# Altium footprint library PCB_Footprint.PcbLib: 124 footprints (part 2 of 8)
Each footprint in its own frame and in the unit in brackets; x right, y up, seen from the top. Pads: shape width x height; smd on the part's side, far side on the other; paste and mask are expansions set on the pad; w line width, h text height; cw(c..) or ccw(c..) is an arc to the next point about the centre after c.
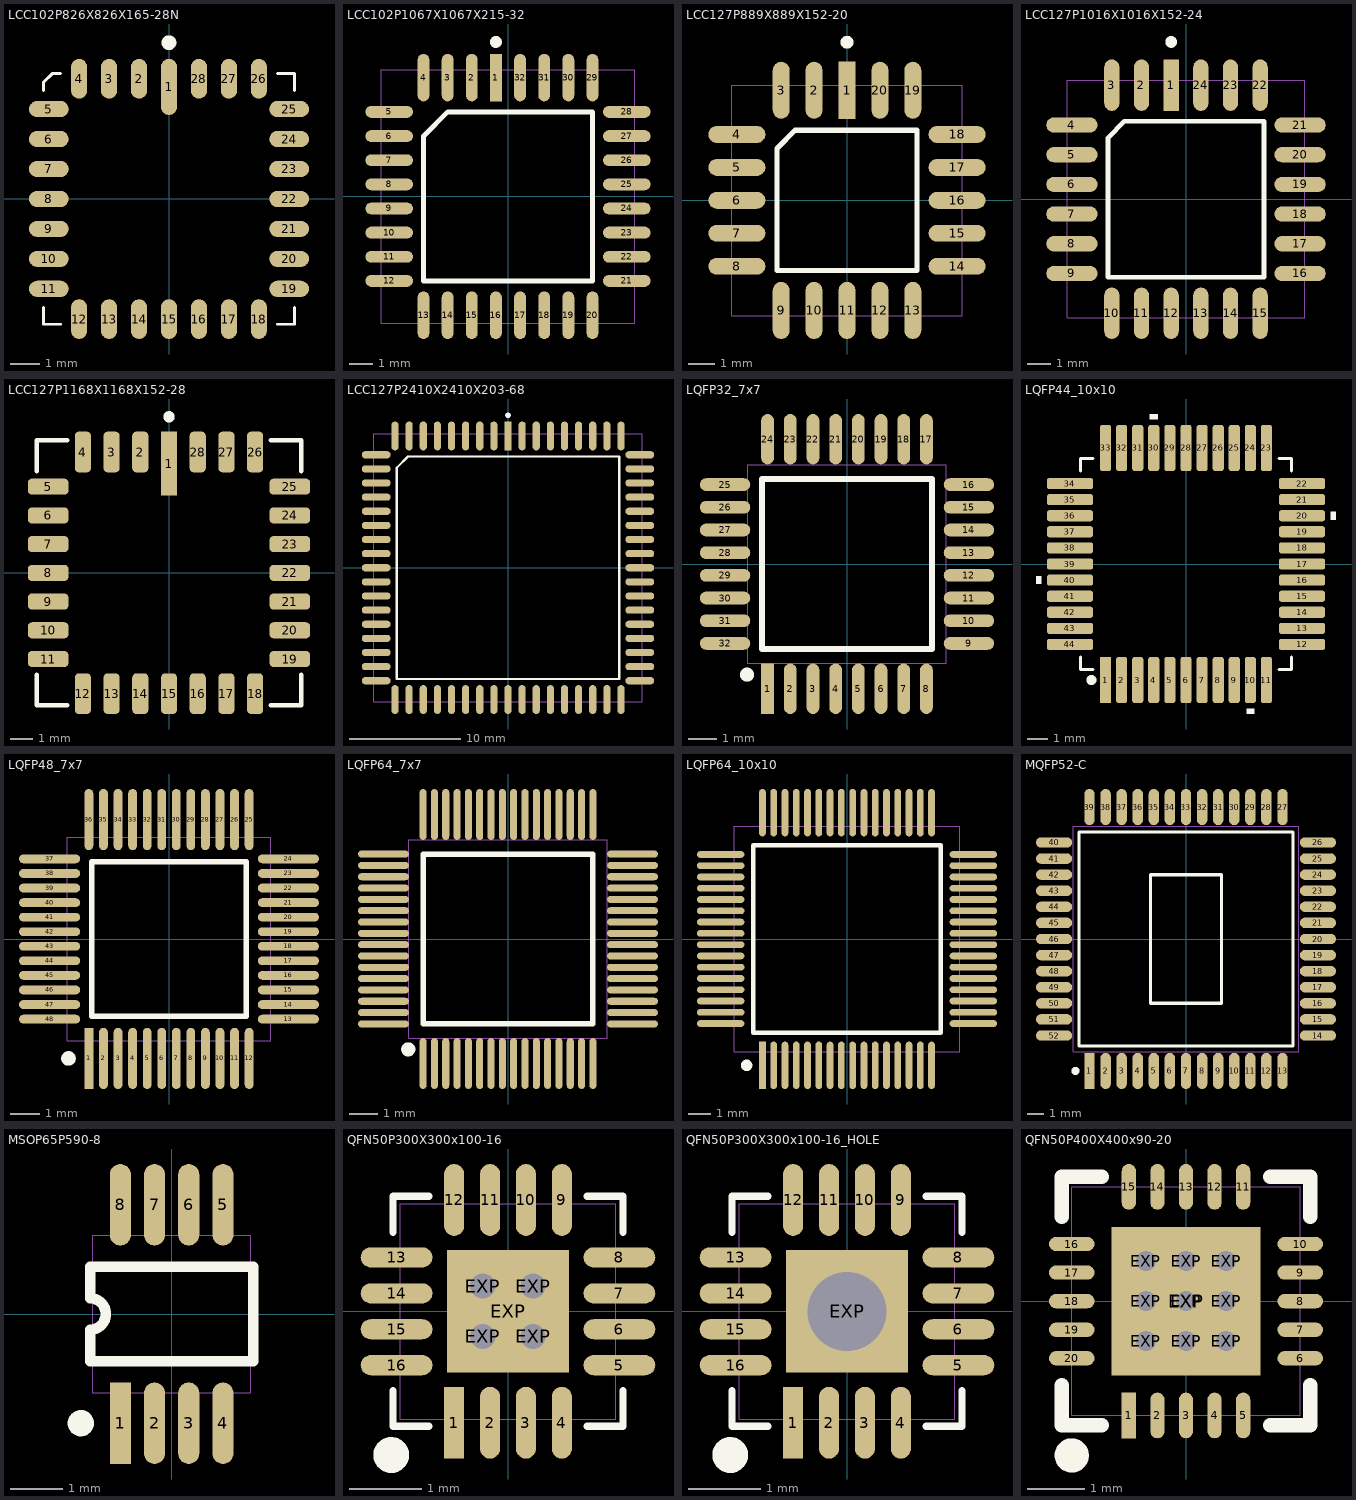
[diagram p1: the footprints below, top view; thin cyan lines are the x and y axes]

## LCC102P826X826X165-28N [mm] "LCC, 28-Pins, Body 8.26x8.26mmx1.65mm, Pitch 1.02mm, IPC Medium Density"
height 1.66
pads (28):
  oval 0.55x1.9 smd: 1(0,3.8)
  oval 0.55x1.35 smd: 2(-1.016,4.075) 3(-2.032,4.075) 4(-3.048,4.075) 12(-3.048,-4.075) 13(-2.032,-4.075) 14(-1.016,-4.075) 15(0,-4.075) 16(1.016,-4.075) 17(2.032,-4.075) 18(3.048,-4.075) 26(3.048,4.075) 27(2.032,4.075) 28(1.016,4.075)
  oval 1.35x0.55 smd: 5(-4.075,3.048) 6(-4.075,2.032) 7(-4.075,1.016) 8(-4.075,0) 9(-4.075,-1.016) 10(-4.075,-2.032) 11(-4.075,-3.048) 19(4.075,-3.048) 20(4.075,-2.032) 21(4.075,-1.016) 22(4.075,0) 23(4.075,1.016) 24(4.075,2.032) 25(4.075,3.048)
Top Overlay:
  circle w0.25: c0,5.3 r0.125
  lines w0.1: -4.25,-3.675 -4.25,-4.25 -3.675,-4.25 ; -4.25,3.675 -4.25,3.963 -3.963,4.25 -3.675,4.25 ; 3.675,-4.25 4.25,-4.25 4.25,-3.675 ; 3.675,4.25 4.25,4.25 4.25,3.675
3D body "LCC102P826X826X165-28N.step": height 1.65, standoff 0, extent -4.127,-4.127 4.128,4.128

## LCC102P1067X1067X215-32 [mm] "Leadless Chip Carrier, 32-Leads, Body 10.67x10.67mm, Pitch 1.02mm, IPC Low Density"
height 2.15
pads (32):
  rect 0.5x2 smd: 1(-0.508,5)
  oval 0.5x2 smd: 2(-1.524,5) 3(-2.54,5) 4(-3.556,5) 13(-3.556,-5) 14(-2.54,-5) 15(-1.524,-5) 16(-0.508,-5) 17(0.508,-5) 18(1.524,-5) 19(2.54,-5) 20(3.556,-5) 29(3.556,5) 30(2.54,5) 31(1.524,5) 32(0.508,5)
  oval 2x0.5 smd: 5(-5,3.556) 6(-5,2.54) 7(-5,1.524) 8(-5,0.508) 9(-5,-0.508) 10(-5,-1.524) 11(-5,-2.54) 12(-5,-3.556) 21(5,-3.556) 22(5,-2.54) 23(5,-1.524) 24(5,-0.508) 25(5,0.508) 26(5,1.524) 27(5,2.54) 28(5,3.556)
Top Overlay:
  circle w0.25: c-0.508,6.5 r0.125
  lines w0.2: -3.556,-3.556 -3.556,2.54 -2.54,3.556 3.556,3.556 3.556,-3.556 -3.556,-3.556
Component Body:
  lines w0.01: -5.334,-5.334 -5.334,5.334 5.334,5.334 5.334,-5.334 -5.334,-5.334
3D body: height 2.15, standoff 0, extent -5.333,-5.333 5.333,5.333

## LCC127P889X889X152-20 [mm] "Leadless Chip Carrier, 20-Leads, Body 8.89x8.89mm, Pitch 1.27mm, IPC Low Density"
height 1.52
pads (20):
  rect 0.65x2.2 smd: 1(0,4.245)
  oval 0.65x2.2 smd: 2(-1.27,4.245) 3(-2.54,4.245) 9(-2.54,-4.245) 10(-1.27,-4.245) 11(0,-4.245) 12(1.27,-4.245) 13(2.54,-4.245) 19(2.54,4.245) 20(1.27,4.245)
  oval 2.2x0.65 smd: 4(-4.245,2.54) 5(-4.245,1.27) 6(-4.245,0) 7(-4.245,-1.27) 8(-4.245,-2.54) 14(4.245,-2.54) 15(4.245,-1.27) 16(4.245,0) 17(4.245,1.27) 18(4.245,2.54)
Top Overlay:
  circle w0.25: c0,6.095 r0.125
  lines w0.2: -2.7,-2.7 -2.7,2 -2,2.7 2.7,2.7 2.7,-2.7 -2.7,-2.7
Component Body:
  lines w0.01: -4.445,-4.445 -4.445,4.445 4.445,4.445 4.445,-4.445 -4.445,-4.445
3D body: height 1.52, standoff 0, extent -4.444,-4.444 4.444,4.444

## LCC127P1016X1016X152-24 [mm] "Leadless Chip Carrier, 24-Leads, Body 10.16x10.16mm, Pitch 1.27mm, IPC Low Density"
height 1.52
pads (24):
  rect 0.65x2.2 smd: 1(-0.635,4.88)
  oval 0.65x2.2 smd: 2(-1.905,4.88) 3(-3.175,4.88) 10(-3.175,-4.88) 11(-1.905,-4.88) 12(-0.635,-4.88) 13(0.635,-4.88) 14(1.905,-4.88) 15(3.175,-4.88) 22(3.175,4.88) 23(1.905,4.88) 24(0.635,4.88)
  oval 2.2x0.65 smd: 4(-4.88,3.175) 5(-4.88,1.905) 6(-4.88,0.635) 7(-4.88,-0.635) 8(-4.88,-1.905) 9(-4.88,-3.175) 16(4.88,-3.175) 17(4.88,-1.905) 18(4.88,-0.635) 19(4.88,0.635) 20(4.88,1.905) 21(4.88,3.175)
Top Overlay:
  circle w0.25: c-0.635,6.73 r0.125
  lines w0.2: -3.335,-3.335 3.335,-3.335 3.335,3.335 -2.635,3.335 -3.335,2.635 -3.335,-3.335
Component Body:
  lines w0.01: -5.08,-5.08 5.08,-5.08 5.08,5.08 -5.08,5.08 -5.08,-5.08
3D body: height 1.52, standoff 0, extent -5.079,-5.079 5.079,5.079

## LCC127P1168X1168X152-28 [mm] "Leadless Chip Carrier, 28-Leads, Body 11.68x11.68mm, Pitch 1.27mm, IPC Low Density"
height 1.52
pads (28):
  rect 0.712x2.813 smd: 1(0,4.835)
  rrect50% 0.712x1.797 smd: 2(-1.27,5.343) 3(-2.54,5.343) 4(-3.81,5.343) 12(-3.81,-5.343) 13(-2.54,-5.343) 14(-1.27,-5.343) 15(0,-5.343) 16(1.27,-5.343) 17(2.54,-5.343) 18(3.81,-5.343) 26(3.81,5.343) 27(2.54,5.343) 28(1.27,5.343)
  rrect50% 1.797x0.712 smd: 5(-5.343,3.81) 6(-5.343,2.54) 7(-5.343,1.27) 8(-5.343,0) 9(-5.343,-1.27) 10(-5.343,-2.54) 11(-5.343,-3.81) 19(5.343,-3.81) 20(5.343,-2.54) 21(5.343,-1.27) 22(5.343,0) 23(5.343,1.27) 24(5.343,2.54) 25(5.343,3.81)
Top Overlay:
  circle w0.25: c0,6.9 r0.125
  lines w0.2: -5.855,-4.499 -5.855,-5.855 -4.499,-5.855 ; -5.855,4.499 -5.855,5.855 -4.499,5.855 ; 4.499,-5.855 5.855,-5.855 5.855,-4.499 ; 4.499,5.855 5.855,5.855 5.855,4.499
3D body "LCC28_11P6X11P6_MCH-M.step": height 1.65, standoff 0, extent -5.842,-5.842 5.842,5.842

## LCC127P2410X2410X203-68 [mm] "Leadless Chip Carrier, 68-Leads, Body 24.1x24.1mm, Pitch 1.27mm, IPC Low Density"
height 2.03
pads (68):
  rect 0.65x2.6 smd: 1(0,11.85)
  oval 0.65x2.6 smd: 2(-1.27,11.85) 3(-2.54,11.85) 4(-3.81,11.85) 5(-5.08,11.85) 6(-6.35,11.85) 7(-7.62,11.85) 8(-8.89,11.85) 9(-10.16,11.85) 27(-10.16,-11.85) 28(-8.89,-11.85) 29(-7.62,-11.85) 30(-6.35,-11.85) 31(-5.08,-11.85) 32(-3.81,-11.85) 33(-2.54,-11.85) 34(-1.27,-11.85) 35(0,-11.85) 36(1.27,-11.85) 37(2.54,-11.85) 38(3.81,-11.85) 39(5.08,-11.85) 40(6.35,-11.85) 41(7.62,-11.85) 42(8.89,-11.85) 43(10.16,-11.85) 61(10.16,11.85) 62(8.89,11.85) 63(7.62,11.85) 64(6.35,11.85) 65(5.08,11.85) 66(3.81,11.85) 67(2.54,11.85) 68(1.27,11.85)
  oval 2.6x0.65 smd: 10(-11.85,10.16) 11(-11.85,8.89) 12(-11.85,7.62) 13(-11.85,6.35) 14(-11.85,5.08) 15(-11.85,3.81) 16(-11.85,2.54) 17(-11.85,1.27) 18(-11.85,0) 19(-11.85,-1.27) 20(-11.85,-2.54) 21(-11.85,-3.81) 22(-11.85,-5.08) 23(-11.85,-6.35) 24(-11.85,-7.62) 25(-11.85,-8.89) 26(-11.85,-10.16) 44(11.85,-10.16) 45(11.85,-8.89) 46(11.85,-7.62) 47(11.85,-6.35) 48(11.85,-5.08) 49(11.85,-3.81) 50(11.85,-2.54) 51(11.85,-1.27) 52(11.85,0) 53(11.85,1.27) 54(11.85,2.54) 55(11.85,3.81) 56(11.85,5.08) 57(11.85,6.35) 58(11.85,7.62) 59(11.85,8.89) 60(11.85,10.16)
Top Overlay:
  circle w0.25: c0,13.7 r0.125
  lines w0.2: -10,-10 10,-10 10,10 -9,10 -10,9 -10,-10
Component Body:
  lines w0.01: -12.065,-12.065 -12.065,12.065 12.065,12.065 12.065,-12.065 -12.065,-12.065
3D body: height 2.03, standoff 0, extent -12.064,-12.064 12.064,12.064

## LQFP32_7x7 [mm] "Thin QFP, 32-Leads, Body 7x7mm, Pitch 0.8mm, IPC Low Density"
height 1.6
pads (32):
  rect 0.45x1.778 smd: 1(-2.8,-4.4)
  oval 0.45x1.778 smd: 2(-2,-4.4) 3(-1.2,-4.4) 4(-0.4,-4.4) 5(0.4,-4.4) 6(1.2,-4.4) 7(2,-4.4) 8(2.8,-4.4) 17(2.8,4.4) 18(2,4.4) 19(1.2,4.4) 20(0.4,4.4) 21(-0.4,4.4) 22(-1.2,4.4) 23(-2,4.4) 24(-2.8,4.4)
  oval 1.778x0.45 smd: 9(4.3,-2.8) 10(4.3,-2) 11(4.3,-1.2) 12(4.3,-0.4) 13(4.3,0.4) 14(4.3,1.2) 15(4.3,2) 16(4.3,2.8) 25(-4.3,2.8) 26(-4.3,2) 27(-4.3,1.2) 28(-4.3,0.4) 29(-4.3,-0.4) 30(-4.3,-1.2) 31(-4.3,-2) 32(-4.3,-2.8)
Top Overlay:
  circle w0.25: c-3.525,-3.9 r0.125
  lines w0.2: -3,-3 -3,3 3,3 3,-3 -3,-3
Component Body:
  lines w0.01: -3.5,-3.5 3.5,-3.5 3.5,3.5 -3.5,3.5 -3.5,-3.5
3D body: height 1.6, standoff 0, extent -3.499,-3.499 3.499,3.499

## LQFP44_10x10 [mm] "Thin QFP, 44-Leads, Body 10x10mm, Pitch 0.8mm, IPC Low Density"
height 1.4
pads (44):
  rect 0.557x2.3 smd paste+0 mask+0.102: 1(-4,-5.765)
  rrect50% 0.557x2.3 smd paste+0 mask+0.102: 2(-3.2,-5.765) 3(-2.4,-5.765) 4(-1.6,-5.765) 5(-0.8,-5.765) 6(0,-5.765) 7(0.8,-5.765) 8(1.6,-5.765) 9(2.4,-5.765) 10(3.2,-5.765) 11(4,-5.765) 23(4,5.765) 24(3.2,5.765) 25(2.4,5.765) 26(1.6,5.765) 27(0.8,5.765) 28(0,5.765) 29(-0.8,5.765) 30(-1.6,5.765) 31(-2.4,5.765) 32(-3.2,5.765) 33(-4,5.765)
  rrect50% 2.3x0.557 smd paste+0 mask+0.102: 12(5.765,-4) 13(5.765,-3.2) 14(5.765,-2.4) 15(5.765,-1.6) 16(5.765,-0.8) 17(5.765,0) 18(5.765,0.8) 19(5.765,1.6) 20(5.765,2.4) 21(5.765,3.2) 22(5.765,4) 34(-5.765,4) 35(-5.765,3.2) 36(-5.765,2.4) 37(-5.765,1.6) 38(-5.765,0.8) 39(-5.765,0) 40(-5.765,-0.8) 41(-5.765,-1.6) 42(-5.765,-2.4) 43(-5.765,-3.2) 44(-5.765,-4)
Top Overlay:
  circle w0.25: c-4.7,-5.765 r0.125
  region: -7.2,-0.61 -7.2,-0.991 -7.454,-0.991 -7.454,-0.61
  region: -1.79,7.2 -1.79,7.454 -1.409,7.454 -1.409,7.2
  region: 7.2,2.591 7.2,2.21 7.454,2.209 7.454,2.59
  region: 3.01,-7.2 3.01,-7.454 3.391,-7.454 3.391,-7.2
  lines w0.152: -5.232,-4.611 -5.232,-5.232 -4.611,-5.232 ; -5.232,4.611 -5.232,5.232 -4.611,5.232 ; 4.611,-5.232 5.232,-5.232 5.232,-4.611 ; 4.611,5.232 5.232,5.232 5.232,4.611
3D body "LQFP-44-M.step": height 1.6, standoff 0, extent -6.096,-6.096 6.096,6.096

## LQFP48_7x7 [mm] "LQFP, 48-Leads, Body 7x7mm, Pitch 0.5mm, IPC Low Density"
height 1.6
pads (48):
  rect 0.3x2.1 smd: 1(-2.75,-4.1)
  oval 0.3x2.1 smd: 2(-2.25,-4.1) 3(-1.75,-4.1) 4(-1.25,-4.1) 5(-0.75,-4.1) 6(-0.25,-4.1) 7(0.25,-4.1) 8(0.75,-4.1) 9(1.25,-4.1) 10(1.75,-4.1) 11(2.25,-4.1) 12(2.75,-4.1) 25(2.75,4.1) 26(2.25,4.1) 27(1.75,4.1) 28(1.25,4.1) 29(0.75,4.1) 30(0.25,4.1) 31(-0.25,4.1) 32(-0.75,4.1) 33(-1.25,4.1) 34(-1.75,4.1) 35(-2.25,4.1) 36(-2.75,4.1)
  oval 2.1x0.3 smd: 13(4.1,-2.75) 14(4.1,-2.25) 15(4.1,-1.75) 16(4.1,-1.25) 17(4.1,-0.75) 18(4.1,-0.25) 19(4.1,0.25) 20(4.1,0.75) 21(4.1,1.25) 22(4.1,1.75) 23(4.1,2.25) 24(4.1,2.75) 37(-4.1,2.75) 38(-4.1,2.25) 39(-4.1,1.75) 40(-4.1,1.25) 41(-4.1,0.75) 42(-4.1,0.25) 43(-4.1,-0.25) 44(-4.1,-0.75) 45(-4.1,-1.25) 46(-4.1,-1.75) 47(-4.1,-2.25) 48(-4.1,-2.75)
Top Overlay:
  circle w0.25: c-3.45,-4.1 r0.125
  lines w0.2: -2.65,-2.65 -2.65,2.65 2.65,2.65 2.65,-2.65 -2.65,-2.65
Component Body:
  lines w0.01: -3.5,-3.5 3.5,-3.5 3.5,3.5 -3.5,3.5 -3.5,-3.5
3D body: height 1.2, standoff 0, extent -3.5,-3.5 3.5,3.5

## LQFP64_7x7 [mm] "Thin QFP, 64-Leads, Body 7x7mm, Pitch 0.4mm, IPC Low Density"
height 1.6
pads (64):
  oval 0.25x1.8 smd: 1(-3,-4.4) 2(-2.6,-4.4) 3(-2.2,-4.4) 4(-1.8,-4.4) 5(-1.4,-4.4) 6(-1,-4.4) 7(-0.6,-4.4) 8(-0.2,-4.4) 9(0.2,-4.4) 10(0.6,-4.4) 11(1,-4.4) 12(1.4,-4.4) 13(1.8,-4.4) 14(2.2,-4.4) 15(2.6,-4.4) 16(3,-4.4) 33(3,4.4) 34(2.6,4.4) 35(2.2,4.4) 36(1.8,4.4) 37(1.4,4.4) 38(1,4.4) 39(0.6,4.4) 40(0.2,4.4) 41(-0.2,4.4) 42(-0.6,4.4) 43(-1,4.4) 44(-1.4,4.4) 45(-1.8,4.4) 46(-2.2,4.4) 47(-2.6,4.4) 48(-3,4.4)
  oval 1.8x0.25 smd: 17(4.4,-3) 18(4.4,-2.6) 19(4.4,-2.2) 20(4.4,-1.8) 21(4.4,-1.4) 22(4.4,-1) 23(4.4,-0.6) 24(4.4,-0.2) 25(4.4,0.2) 26(4.4,0.6) 27(4.4,1) 28(4.4,1.4) 29(4.4,1.8) 30(4.4,2.2) 31(4.4,2.6) 32(4.4,3) 49(-4.4,3) 50(-4.4,2.6) 51(-4.4,2.2) 52(-4.4,1.8) 53(-4.4,1.4) 54(-4.4,1) 55(-4.4,0.6) 56(-4.4,0.2) 57(-4.4,-0.2) 58(-4.4,-0.6) 59(-4.4,-1) 60(-4.4,-1.4) 61(-4.4,-1.8) 62(-4.4,-2.2) 63(-4.4,-2.6) 64(-4.4,-3)
Top Overlay:
  circle w0.25: c-3.525,-3.9 r0.125
  lines w0.2: -3,-3 3,-3 3,3 -3,3 -3,-3
Component Body:
  lines w0.01: -3.5,-3.5 3.5,-3.5 3.5,3.5 -3.5,3.5 -3.5,-3.5
3D body: height 1.6, standoff 0, extent -3.5,-3.5 3.5,3.5

## LQFP64_10x10 [mm] "Thin QFP, 64-Leads, Body 10x10mm, Pitch 0.5mm, IPC Low Density"
height 1.6
pads (64):
  rect 0.3x2.1 smd: 1(-3.75,-5.6)
  oval 0.3x2.1 smd: 2(-3.25,-5.6) 3(-2.75,-5.6) 4(-2.25,-5.6) 5(-1.75,-5.6) 6(-1.25,-5.6) 7(-0.75,-5.6) 8(-0.25,-5.6) 9(0.25,-5.6) 10(0.75,-5.6) 11(1.25,-5.6) 12(1.75,-5.6) 13(2.25,-5.6) 14(2.75,-5.6) 15(3.25,-5.6) 16(3.75,-5.6) 33(3.75,5.6) 34(3.25,5.6) 35(2.75,5.6) 36(2.25,5.6) 37(1.75,5.6) 38(1.25,5.6) 39(0.75,5.6) 40(0.25,5.6) 41(-0.25,5.6) 42(-0.75,5.6) 43(-1.25,5.6) 44(-1.75,5.6) 45(-2.25,5.6) 46(-2.75,5.6) 47(-3.25,5.6) 48(-3.75,5.6)
  oval 2.1x0.3 smd: 17(5.6,-3.75) 18(5.6,-3.25) 19(5.6,-2.75) 20(5.6,-2.25) 21(5.6,-1.75) 22(5.6,-1.25) 23(5.6,-0.75) 24(5.6,-0.25) 25(5.6,0.25) 26(5.6,0.75) 27(5.6,1.25) 28(5.6,1.75) 29(5.6,2.25) 30(5.6,2.75) 31(5.6,3.25) 32(5.6,3.75) 49(-5.6,3.75) 50(-5.6,3.25) 51(-5.6,2.75) 52(-5.6,2.25) 53(-5.6,1.75) 54(-5.6,1.25) 55(-5.6,0.75) 56(-5.6,0.25) 57(-5.6,-0.25) 58(-5.6,-0.75) 59(-5.6,-1.25) 60(-5.6,-1.75) 61(-5.6,-2.25) 62(-5.6,-2.75) 63(-5.6,-3.25) 64(-5.6,-3.75)
Top Overlay:
  circle w0.25: c-4.45,-5.6 r0.125
  lines w0.2: -4.15,-4.15 4.15,-4.15 4.15,4.15 -4.15,4.15 -4.15,-4.15
Component Body:
  lines w0.01: -5,-5 5,-5 5,5 -5,5 -5,-5
3D body: height 1.6, standoff 0, extent -5,-5 5,5

## MQFP52-C [mm] "MQFP, 52-Leads, with optical area, Body 14x14x2.67mm, Pitch 1.0mm"
height 2.67
pads (52):
  rect 0.65x2.25 smd: 1(-6,-8.2)
  oval 0.65x2.25 smd: 2(-5,-8.2) 3(-4,-8.2) 4(-3,-8.2) 5(-2,-8.2) 6(-1,-8.2) 7(0,-8.2) 8(1,-8.2) 9(2,-8.2) 10(3,-8.2) 11(4,-8.2) 12(5,-8.2) 13(6,-8.2) 27(6,8.2) 28(5,8.2) 29(4,8.2) 30(3,8.2) 31(2,8.2) 32(1,8.2) 33(0,8.2) 34(-1,8.2) 35(-2,8.2) 36(-3,8.2) 37(-4,8.2) 38(-5,8.2) 39(-6,8.2)
  oval 2.25x0.65 smd: 14(8.2,-6) 15(8.2,-5) 16(8.2,-4) 17(8.2,-3) 18(8.2,-2) 19(8.2,-1) 20(8.2,0) 21(8.2,1) 22(8.2,2) 23(8.2,3) 24(8.2,4) 25(8.2,5) 26(8.2,6) 40(-8.2,6) 41(-8.2,5) 42(-8.2,4) 43(-8.2,3) 44(-8.2,2) 45(-8.2,1) 46(-8.2,0) 47(-8.2,-1) 48(-8.2,-2) 49(-8.2,-3) 50(-8.2,-4) 51(-8.2,-5) 52(-8.2,-6)
Top Overlay:
  circle w0.25: c-6.875,-8.2 r0.125
  lines w0.2: -6.65,-6.65 6.65,-6.65 6.65,6.65 -6.65,6.65 -6.65,-6.65 ; -2.2,-4 2.2,-4 2.2,4 -2.2,4 -2.2,-4
Component Body:
  lines w0.01: -7,-7 -7,7 7,7 7,-7 -7,-7
3D body: height 3, standoff 0, extent -7,-7 7,7

## MSOP65P590-8 [mm] "Shrink Small Outline; 8 Leads; Body Width 3 mm; Pitch 0.65 mm"
height 1.1
pads (8):
  rect 0.4x1.55 smd: 1(-0.975,-2.075)
  oval 0.4x1.55 smd: 2(-0.325,-2.075) 3(0.325,-2.075) 4(0.975,-2.075) 5(0.975,2.075) 6(0.325,2.075) 7(-0.325,2.075) 8(-0.975,2.075)
Top Overlay:
  circle w0.25: c-1.725,-2.075 r0.125
  lines w0.2: -1.55,-0.9 1.55,-0.9 1.55,0.9 -1.55,0.9 -1.55,0.3 cw(c-1.55,0) -1.55,-0.3 -1.55,-0.9
Component Body:
  lines w0.01: -1.5,-1.5 -1.5,1.5 1.5,1.5 1.5,-1.5 -1.5,-1.5
3D body: height 1.1, standoff 0, extent -1.5,-1.5 1.5,1.5

## QFN50P300X300x100-16 [mm] "QFN, 16-Leads, quad, Body 3x3x1mm, Pitch 0.5mm, Hole in exposed pad"
height 1
pads (21):
  rect 0.28x1 smd mask+0.11: 1(-0.75,-1.55)
  oval 0.28x1 smd mask+0.11: 2(-0.25,-1.55) 3(0.25,-1.55) 4(0.75,-1.55) 9(0.75,1.55) 10(0.25,1.55) 11(-0.25,1.55) 12(-0.75,1.55)
  oval 1x0.28 smd mask+0.11: 5(1.55,-0.75) 6(1.55,-0.25) 7(1.55,0.25) 8(1.55,0.75) 13(-1.55,0.75) 14(-1.55,0.25) 15(-1.55,-0.25) 16(-1.55,-0.75)
  round 0.65 hole 0.35: EXP(-0.35,-0.35) EXP(-0.35,0.35) EXP(0.35,-0.35) EXP(0.35,0.35)
  rect 1.7x1.7 smd mask+0.35: EXP(0,0)
Top Overlay:
  circle w0.25: c-1.625,-2 r0.125
  lines w0.1: -1.6,-1.1 -1.6,-1.6 -1.1,-1.6 ; -1.6,1.1 -1.6,1.6 -1.1,1.6 ; 1.1,-1.6 1.6,-1.6 1.6,-1.1 ; 1.1,1.6 1.6,1.6 1.6,1.1
Component Body:
  lines w0.01: -1.5,-1.5 1.5,-1.5 1.5,1.5 -1.5,1.5 -1.5,-1.5
3D body: height 0.65, standoff 0, extent -1.5,-1.5 1.5,1.5

## QFN50P300X300x100-16_HOLE [mm] "QFN, 16-Leads, quad, Body 3x3x1mm, Pitch 0.5mm, Hole in exposed pad"
height 1
pads (17):
  rect 0.28x1 smd mask+0.11: 1(-0.75,-1.55)
  oval 0.28x1 smd mask+0.11: 2(-0.25,-1.55) 3(0.25,-1.55) 4(0.75,-1.55) 9(0.75,1.55) 10(0.25,1.55) 11(-0.25,1.55) 12(-0.75,1.55)
  oval 1x0.28 smd mask+0.11: 5(1.55,-0.75) 6(1.55,-0.25) 7(1.55,0.25) 8(1.55,0.75) 13(-1.55,0.75) 14(-1.55,0.25) 15(-1.55,-0.25) 16(-1.55,-0.75)
  rect 1.7x1.7 hole 1.1 mask+0.35: EXP(0,0)
Top Overlay:
  circle w0.25: c-1.625,-2 r0.125
  lines w0.1: -1.6,-1.1 -1.6,-1.6 -1.1,-1.6 ; -1.6,1.1 -1.6,1.6 -1.1,1.6 ; 1.1,-1.6 1.6,-1.6 1.6,-1.1 ; 1.1,1.6 1.6,1.6 1.6,1.1
Component Body:
  lines w0.01: -1.5,-1.5 1.5,-1.5 1.5,1.5 -1.5,1.5 -1.5,-1.5
3D body: height 0.65, standoff 0, extent -1.5,-1.5 1.5,1.5

## QFN50P400X400x90-20 [mm] "QFN, 20-Leads, Body 4x4x0.9mm, Pitch 0.5mm"
height 0.9
pads (30):
  rect 0.25x0.8 smd: 1(-1,-2)
  oval 0.25x0.8 smd: 2(-0.5,-2) 3(0,-2) 4(0.5,-2) 5(1,-2) 11(1,2) 12(0.5,2) 13(0,2) 14(-0.5,2) 15(-1,2)
  oval 0.8x0.25 smd: 6(2,-1) 7(2,-0.5) 8(2,0) 9(2,0.5) 10(2,1) 16(-2,1) 17(-2,0.5) 18(-2,0) 19(-2,-0.5) 20(-2,-1)
  round 0.65 hole 0.35: EXP(-0.7,-0.7) EXP(-0.7,0) EXP(-0.7,0.7) EXP(0,-0.7) EXP(0,0) EXP(0,0.7) EXP(0.7,-0.7) EXP(0.7,0) EXP(0.7,0.7)
  rect 2.6x2.6 smd: EXP(0,0)
Top Overlay:
  circle w0.3: c-2,-2.7 r0.15
  lines w0.254: -2.175,-1.475 -2.175,-2.175 -1.475,-2.175 ; -2.174,1.476 -2.174,2.176 -1.474,2.176 ; 1.474,-2.176 2.174,-2.176 2.174,-1.476 ; 1.476,2.173 2.176,2.173 2.176,1.473
Component Body:
  lines w0.01: -2,-2 -2,2 2,2 2,-2 -2,-2
3D body: height 0.9, standoff 0, extent -1.999,-1.999 1.999,1.999